# Altium schematic symbol library 7461084.SchLib: 1 symbol
Pins are listed as number, name and electrical type; pins without a type are passive.

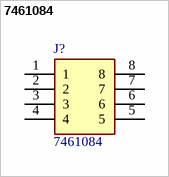
[diagram p0: symbol 7461084]

## 7461084
designator J?
PCB power element bush terminal,8P, M6 Wurth Elektronik 8 Pin Power Element, Copper Zinc Alloy, 160A, M6, Vertical; Geometry.Height: 13.5mm; Mouser Part Number: 710-7461084; Mouser Price/Stock: https://www.mouser.co.uk/ProductDetail/Wurth-Elektronik/7461084?qs=lykWx4dhCCHlOeuPuO4BAQ%3D%3D; Manufacturer_Name: Wurth Elektronik; Manufacturer_Part_Number: 7461084; Datasheet Link: https://www.we-online.com/components/products/datasheet/7461084.pdf
footprint 7461084
pins: 1, 2, 3, 4, 5, 6, 7, 8